# Altium footprint library CAP 1206_3216 - 0.6MM.PCBLIB: 1 footprints
Each footprint in its own frame and in the unit in brackets; x right, y up, seen from the top. Pads: shape width x height; smd on the part's side, far side on the other; paste and mask are expansions set on the pad; w line width, h text height; cw(c..) or ccw(c..) is an arc to the next point about the centre after c.
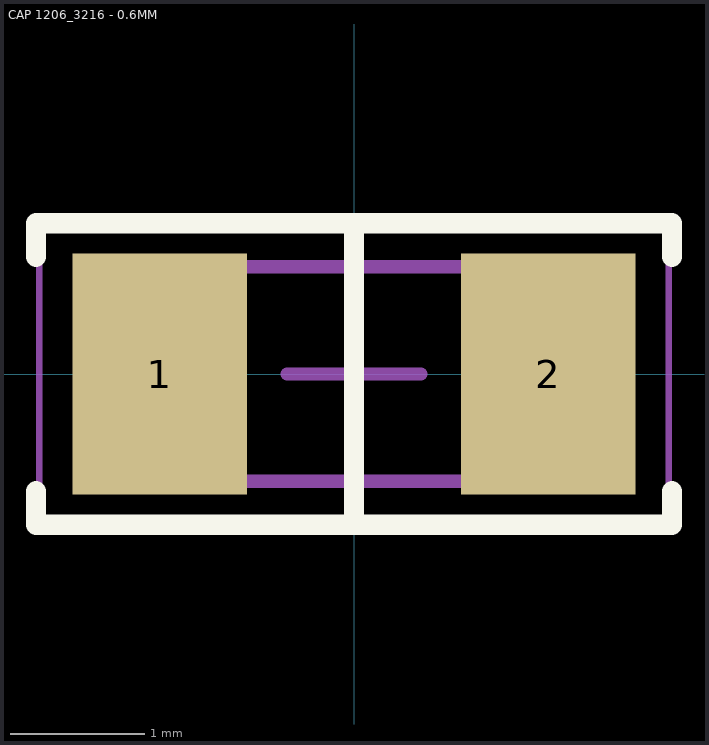
[diagram p0: the footprint, top view; thin cyan lines are the x and y axes]

## CAP 1206_3216 - 0.6MM [mm] "Chip Capacitor, 2-Leads, Body 3.25x1.60mm, IPC Medium Density"
height 0.6
pads (2):
  rect 1.3x1.8 smd: 1(-1.45,0) 2(1.45,0)
Top Overlay:
  lines w0.15: -2.375,-0.875 -2.375,-1.125 2.375,-1.125 2.375,-0.875 ; -2.375,0.875 -2.375,1.125 2.375,1.125 2.375,0.875 ; 0,-1.125 0,1.125
Mechanical 13:
  lines w0.1: -1.6,-0.8 -1.6,0.8 1.6,0.8 1.6,-0.8 -1.6,-0.8
Mechanical 15:
  lines w0.05: -2.35,-1.15 -2.35,1.15 2.35,1.15 2.35,-1.15 -2.35,-1.15
  lines w0.1: -0.5,0 0.5,0 ; 0,-0.5 0,0.5
3D body "CAPC320X160X60L57.STEP": height 0.6, standoff 0, extent -1.6,-0.8 1.6,0.8